# Altium footprint library RH73X2A50GNTN.PcbLib: 3 footprints
Each footprint in its own frame and in the unit in brackets; x right, y up, seen from the top. Pads: shape width x height; smd on the part's side, far side on the other; paste and mask are expansions set on the pad; w line width, h text height; cw(c..) or ccw(c..) is an arc to the next point about the centre after c.
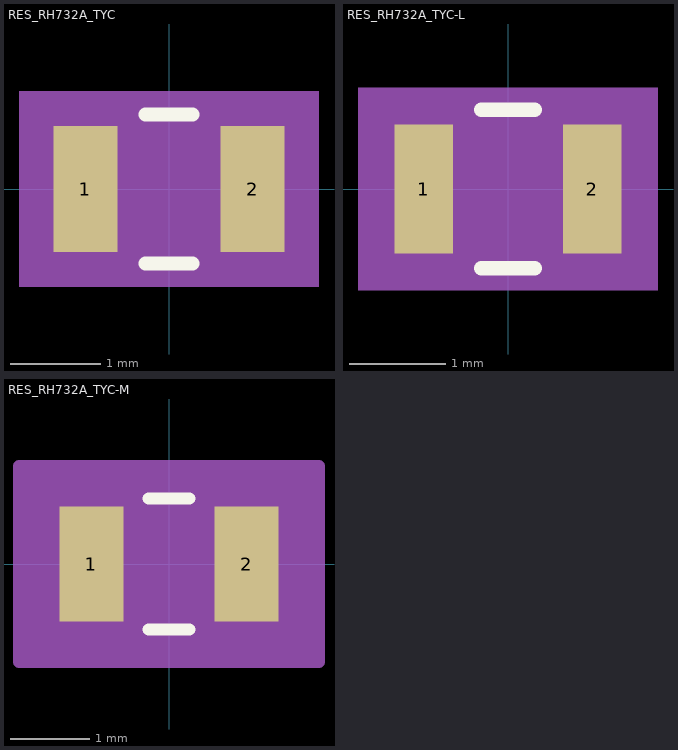
[diagram p0: the footprints below, top view; thin cyan lines are the x and y axes]

## RES_RH732A_TYC [mil]
pads (2):
  rect 27.87x55 smd paste+0 mask+0: 1(-36.44,0) 2(36.44,0)
Top Overlay:
  lines w6: -10.39,-32.5 10.39,-32.5 ; -10.39,32.5 10.39,32.5
Mechanical 5:
  region: 65.37,-42.5 -65.37,-42.5 -65.37,42.5 65.37,42.5
Mechanical 13:
  lines w1: -42.5,-27.5 -42.5,27.5 ; -42.5,-27.5 -22.5,-27.5 -22.5,27.5 -42.5,27.5 ; -42.5,-27.5 42.5,-27.5 ; -42.5,-27.5 -42.5,27.5 ; -42.5,27.5 42.5,27.5 ; 42.5,-27.5 22.5,-27.5 22.5,27.5 42.5,27.5 ; 42.5,-27.5 42.5,27.5 ; 42.5,-27.5 42.5,27.5
Mechanical 15:
  region: 60.37,-37.5 -60.37,-37.5 -60.37,37.5 60.37,37.5
  lines w6: -60.37,-37.5 -60.37,37.5 60.37,37.5 60.37,-37.5 -60.37,-37.5
3D body "RES_RH732A_TYC.step": height 20, standoff 0, extent -42.52,-27.48 42.52,27.48

## RES_RH732A_TYC-L [mil]
pads (2):
  rect 23.94x53.03 smd paste+0 mask+0: 1(-34.47,0) 2(34.47,0)
Top Overlay:
  lines w6: -10.85,-32.5 10.85,-32.5 ; -10.85,32.5 10.85,32.5
Mechanical 5:
  region: 61.44,-41.52 -61.44,-41.52 -61.44,41.52 61.44,41.52
Mechanical 13:
  lines w1: -42.5,-27.5 -42.5,27.5 ; -42.5,-27.5 -22.5,-27.5 -22.5,27.5 -42.5,27.5 ; -42.5,-27.5 42.5,-27.5 ; -42.5,-27.5 -42.5,27.5 ; -42.5,27.5 42.5,27.5 ; 42.5,-27.5 22.5,-27.5 22.5,27.5 42.5,27.5 ; 42.5,-27.5 42.5,27.5 ; 42.5,-27.5 42.5,27.5
Mechanical 15:
  region: 50.44,-30.52 -50.44,-30.52 -50.44,30.52 50.44,30.52
  lines w6: -50.44,-30.52 -50.44,30.52 50.44,30.52 50.44,-30.52 -50.44,-30.52
3D body "RES_RH732A_TYC.step": height 20, standoff 0, extent -42.52,-27.48 42.52,27.48

## RES_RH732A_TYC-M [mil]
pads (2):
  rect 31.81x56.97 smd paste+0 mask+0: 1(-38.41,0) 2(38.41,0)
Top Overlay:
  lines w6: -10.03,-32.5 10.03,-32.5 ; -10.03,32.5 10.03,32.5
Mechanical 5:
  region: 69.31,-43.48 -69.31,-43.48 -69.31,43.48 69.31,43.48
Mechanical 13:
  lines w1: -42.5,-27.5 -42.5,27.5 ; -42.5,-27.5 -22.5,-27.5 -22.5,27.5 -42.5,27.5 ; -42.5,-27.5 42.5,-27.5 ; -42.5,-27.5 -42.5,27.5 ; -42.5,27.5 42.5,27.5 ; 42.5,-27.5 22.5,-27.5 22.5,27.5 42.5,27.5 ; 42.5,-27.5 42.5,27.5 ; 42.5,-27.5 42.5,27.5
Mechanical 15:
  region: 74.31,-48.48 -74.31,-48.48 -74.31,48.48 74.31,48.48
  lines w6: -74.31,-48.48 -74.31,48.48 74.31,48.48 74.31,-48.48 -74.31,-48.48
3D body "RES_RH732A_TYC.step": height 20, standoff 0, extent -42.52,-27.48 42.52,27.48